# Altium footprint library Mainboard.PcbLib: 25 footprints (part 2 of 2)
Each footprint in its own frame and in the unit in brackets; x right, y up, seen from the top. Pads: shape width x height; smd on the part's side, far side on the other; paste and mask are expansions set on the pad; w line width, h text height; cw(c..) or ccw(c..) is an arc to the next point about the centre after c.
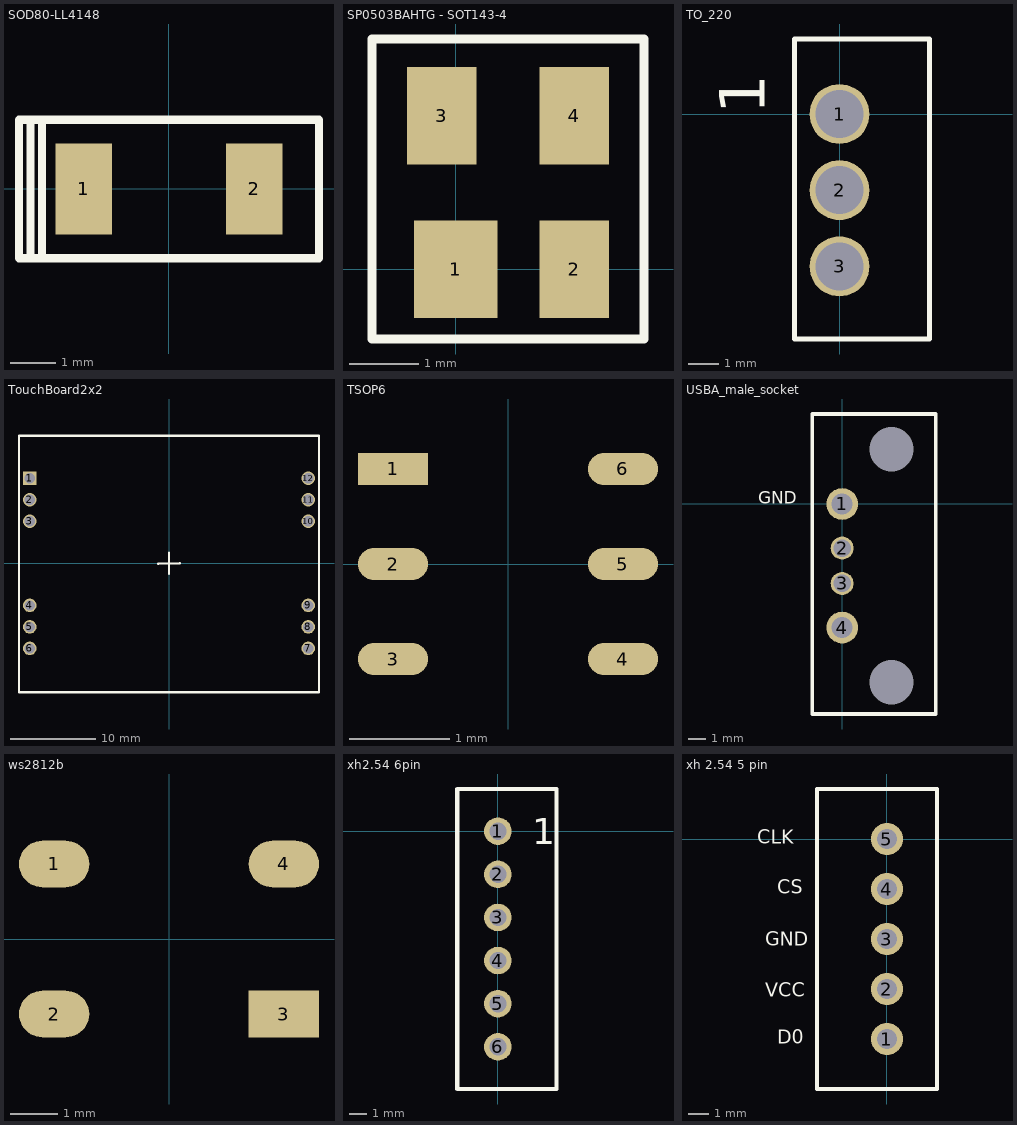
[diagram p1: the footprints below, top view; thin cyan lines are the x and y axes]

## SOD80-LL4148 [mm]
pads (2):
  rect 1.25x2 smd: 1(-1.875,0) 2(1.875,0)
Top Overlay:
  lines w0.18: -3.048,-1.524 -3.048,1.524 ; -2.794,-1.524 -2.794,1.524 ; -3.302,-1.524 -3.302,1.524 3.302,1.524 3.302,-1.524 -3.302,-1.524
3D body "User Library-SOD80-3.STEP": height 1.5, standoff 0, extent -1.8,-0.738 1.8,0.762

## SP0503BAHTG - SOT143-4 [mm]
pads (4):
  rect 1.2x1.4 smd: 1(0,0)
  rect 1x1.4 smd: 2(1.7,0) 3(-0.2,2.2) 4(1.7,2.2)
Top Overlay:
  lines w0.127: -1.2,-1 -1.2,3.3 2.7,3.3 2.7,-1 -1.2,-1
3D body "User Library-SOT 143.step": height 1.11, standoff 0.01, extent -0.75,-0.15 2.25,2.35

## TO_220 [mm]
pads (3):
  round 2 hole 1.6: 1(0,0) 2(0,-2.54) 3(0,-5.08)
Top Overlay:
  lines w0.18: -1.5,-7.5 -1.5,2.5 3,2.5 3,-7.5 -1.5,-7.5
  text "1" at -2.5,0 h1.52
3D body "User Library-TO220-AB PCB.step": height 20.05, standoff -3.5, extent -1.55,-7.45 2.907,2.45

## TouchBoard2x2 [mm]
pads (12):
  rect 1.6x1.6 hole 1.2: 1(-16.43,10.04)
  round 1.6 hole 1.2: 2(-16.43,7.5) 3(-16.43,4.96) 4(-16.43,-4.96) 5(-16.43,-7.5) 6(-16.43,-10.04) 7(16.43,-10.04) 8(16.43,-7.5) 9(16.43,-4.96) 10(16.43,4.96) 11(16.43,7.5) 12(16.43,10.04)
Top Overlay:
  lines w0.254: -17.7,14.99 -17.7,-15.21 17.7,-15.21 17.7,15.05 -17.7,15.05 ; -1.27,-0.05 1.27,0 ; 0,-1.27 0,1.27
3D body "TouchScreen_and_Leds v7.step": height 4.14, standoff 2.54, extent -17.63,-15.16 17.77,15.04

## TSOP6 [mm]
pads (6):
  rect 0.7x0.32 smd: 1(-1.15,0.95)
  oval 0.7x0.32 smd: 2(-1.15,0) 3(-1.15,-0.95) 4(1.15,-0.95) 5(1.15,0) 6(1.15,0.95)
3D body "User Library-TSOP-6.step": height 1, standoff 0, extent -1.35,-1.5 1.35,1.5

## USBA_male_socket [mm]
pads (6):
  round 1.8 hole 1.2: 1(0,0) 4(0,-7)
  round 1.3 hole 1: 2(0,-2.5) 3(0,-4.5)
  round 0 hole 2.5: 5(2.8,-10.1) 8(2.8,3.1)
Top Overlay:
  lines w0.2: -1.7,-11.9 -1.7,5.1 5.3,5.1 5.3,-11.9 -1.7,-11.9
  text "GND" at -4.75,-0.25 h1.2
3D body "18m6973_1734366-1.stp": height 15.01, standoff -3.92, extent -2.26,-11.299 4.86,4.5

## ws2812b [mm]
pads (4):
  oval 1.5x1 smd: 1(-2.45,1.6) 2(-2.45,-1.6) 4(2.45,1.6)
  rect 1.5x1 smd: 3(2.45,-1.6)
3D body "ws2812b v4.step": height 1.5, standoff 0, extent -2.7,-2.5 2.7,2.5

## xh2.54 6pin [mm]
pads (6):
  round 1.6 hole 1: 1(0,0) 2(0,-2.5) 3(0,-5) 4(0,-7.5) 5(0,-10) 6(0,-12.5)
Top Overlay:
  lines w0.254: -2.35,-14.95 3.4,-14.95 3.4,2.45 -2.35,2.45 -2.35,-14.95
  text "1" at 2,-0.75 h1.52
3D body "xh25_6pin.step": height 7, standoff -3.4, extent -2.375,-14.95 3.375,2.45

## xh 2.54 5 pin [mm]
pads (5):
  round 1.6 hole 1: 1(0,-10) 2(0,-7.5) 3(0,-5) 4(0,-2.5) 5(0,0)
Top Overlay:
  lines w0.2: -3.5,-12.5 2.5,-12.5 2.5,2.5 -3.5,2.5 -3.5,-12.5
  text "VCC" at -6.096,-8.128 h1.2
  text "CLK" at -6.5,-0.5 h1.2
  text "CS" at -5.5,-3 h1.2
  text "D0" at -5.5,-10.5 h1.2
  text "GND" at -6.096,-5.588 h1.2
3D body "User Library-JST B5B-XH-A.step": height 7, standoff -3.4, extent -3.375,-12.45 2.375,2.45